# EAGLE library part DG200B (library ic-siliconix)
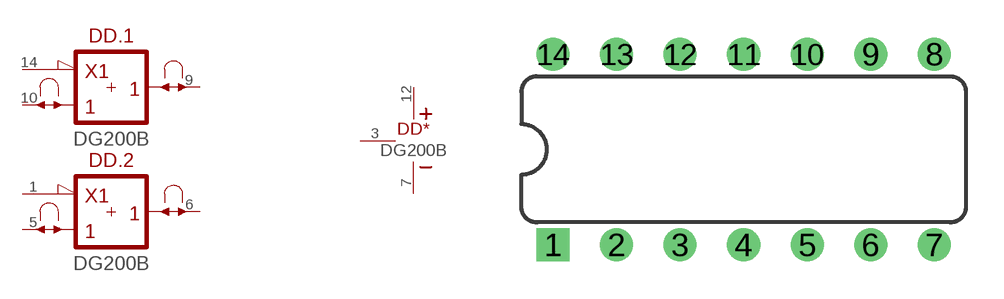
[diagram p0: symbol with the pads of DIP-14; footprint DIP-14]

Designator prefix DD; gates .1=SWITCH-NEG .2=SWITCH-NEG *=SUPPLY+GND

## DG200BDJ-E3 (MOUSER: 781-DG200BDJ-E3)  [DIP-14]
1  .2:C  in
3  *:GND  pwr
5  .2:A  pas
6  .2:B  pas
7  *:V-  pwr
9  .1:B  pas
10  .1:A  pas
12  *:V+  pwr
14  .1:C  in

## Footprint DIP-14 (pad centres in mm)
drill 0.813 square: 1 -7.62,-3.81
drill 0.813: 2 -5.08,-3.81; 3 -2.54,-3.81; 4 0,-3.81; 5 2.54,-3.81; 6 5.08,-3.81; 7 7.62,-3.81; 8 7.62,3.81; 9 5.08,3.81; 10 2.54,3.81; 11 0,3.81; 12 -2.54,3.81; 13 -5.08,3.81; 14 -7.62,3.81